# Altium schematic symbol library CANLED_SCHLIB.SchLib: 11 symbols
Pins are listed as number, name and electrical type; pins without a type are passive.

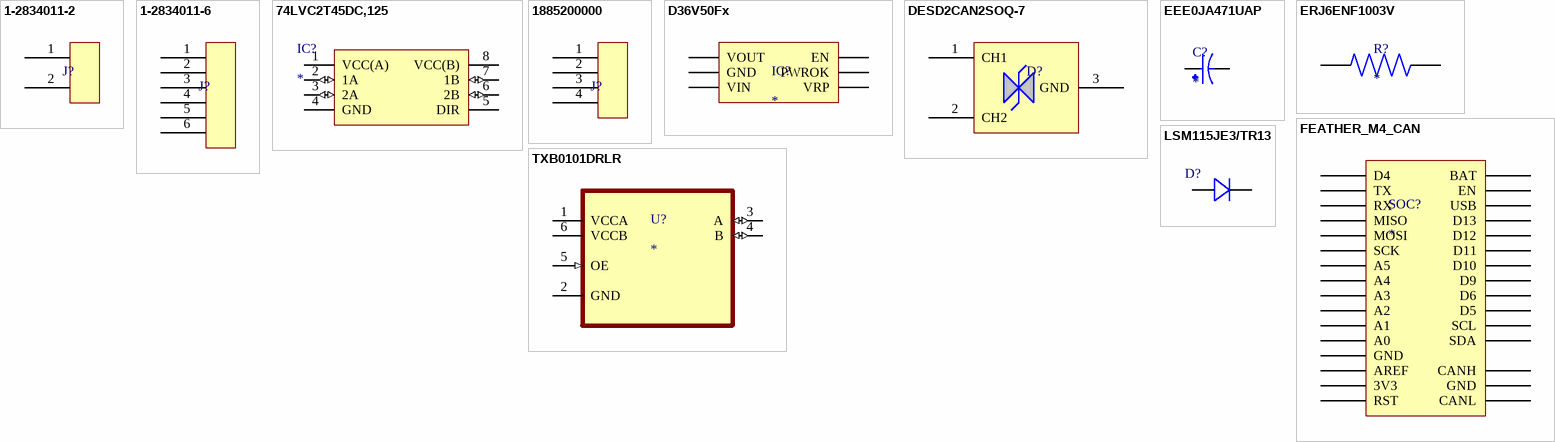
[diagram p0: symbols 1-2834011-2 to TXB0101DRLR]

## 1-2834011-2
designator J?  (value not drawn)
Conn PC Terminal Block RCP 2 POS 3.5mm Solder ST Thru-Hole 6A/Contact Box/Carton; Manufacturer: TE Connectivity; Manufacturer Part Number: 1-2834011-2; Current Rating: 6A; Voltage Rating: 300V; Connector Type: Receptacle,Connector; Number of Positions: 2; Sealable: No (Without); Wire/Cable Gauge: 14AWG; Approvals: UL; Supplier 1: Digi-Key; RoHS: Yes; Category: Terminal Blocks; Stock 1: 40747; Pricing 1: 1=0.68000, 10=0.42600, 25=0.36440, 50=0.32780, 100=0.32090, 250=0.27308, 500=0.25942, 1000=0.23212, 5000=0.18206 (USD); Number of Pins: 2; Contact Plating: Tin,Lead; Packaging: Box; Termination: Through Hole; Contact Current Rating: 6A; REACH SVHC: Unknown; Lead Free: Lead Free; RoHS Compliant: Yes; ComponentLink1URL: http://www.te.com/commerce/DocumentDelivery/DDEController?Action=srchrtrv&DocNm=1-1773872-7_ModularScrewlessTerminalBloc&DocType=DS&DocLang=English&src-supplier=Digi-Key; ComponentLink1Description: http://www.te.com/commerce/DocumentDelivery/DDEController?Action=srchrtrv&DocNm=1-1773872-7_ModularScrewlessTerminalBloc&DocType=DS&DocLang=English&src-supplier=Digi-Key; ComponentLink2URL: http://www.farnell.com/datasheets/2057753.pdf?src-supplier=Element14; ComponentLink2Description: http://www.farnell.com/datasheets/2057753.pdf?src-supplier=Element14; ComponentLink3URL: http://www.farnell.com/datasheets/2296738.pdf?src-supplier=Newark; ComponentLink3Description: http://www.farnell.com/datasheets/2296738.pdf?src-supplier=Newark; Supplier Part Number 1: A123848-ND
footprint 1-2834011-2
pins: 1, 2

## 1-2834011-6
designator J?  (value not drawn)
Conn PC Terminal Block 6 POS 3.5mm Solder ST Thru-Hole 6A/Contact Box/Carton; Manufacturer: TE Connectivity; Manufacturer Part Number: 1-2834011-6; Connector Type: Receptacle,Connector; Sealable: No (Without); Contact Current Rating: 6A; Wire/Cable Gauge: 14AWG; Approvals: UL; Supplier 1: Digi-Key; RoHS: No; Category: Terminal Blocks; Stock 1: 4797; Pricing 1: 1=1.42000, 10=1.00100, 25=0.93320, 50=0.84700, 100=0.84320, 250=0.71200, 500=0.67454, 1000=0.59959, 5000=0.49966 (USD); Number of Pins: 6; Contact Plating: Tin,Lead; Packaging: Box; Termination: Through Hole; Lead Free: Lead Free; ComponentLink1URL: http://www.te.com/commerce/DocumentDelivery/DDEController?Action=srchrtrv&DocNm=2834011&DocType=Customer+Drawing&DocLang=English&src-supplier=Digi-Key; ComponentLink1Description: http://www.te.com/commerce/DocumentDelivery/DDEController?Action=srchrtrv&DocNm=2834011&DocType=Customer+Drawing&DocLang=English&src-supplier=Digi-Key; Supplier Part Number 1: A123851-ND
footprint 1-2834011-6
pins: 1, 2, 3, 4, 5, 6

## 74LVC2T45DC,125
designator IC?
Voltage Level Translator Bidirectional 1 Circuit 2 Channel 420Mbps 8-VSSOP; MP: 74LVC2T45DC,125; MF: Nexperia USA; Value: *; Availability: Good; Package: VSSOP8-8 Nexperia USA Inc.; Check_prices: https://www.snapeda.com/parts/74LVC2T45DC,125/Nexperia/view-part/287401/?ref=eda; Price: None; SnapEDA_Link: https://www.snapeda.com/parts/74LVC2T45DC,125/Nexperia/view-part/287401/?ref=snap; Purchase-URL: https://pricing.snapeda.com/search/part/74LVC2T45DC,125/?ref=eda
footprint SOP50P310X100-8N
pins: 1 VCC(A) (power), 2 1A (io), 3 2A (io), 4 GND (power), 5 DIR, 6 2B (io), 7 1B (io), 8 VCC(B) (power)

## 1885200000
designator J?  (value not drawn)
footprint 1885200000
pins: 1, 2, 3, 4

## D36V50Fx
designator IC?
footprint D36V50Fx
pins: 1 VOUT, 2 GND, 3 VIN, 4 VRP, 5 PWROK, 6 EN

## DESD2CAN2SOQ-7
designator D?  (value not drawn)
ESD Suppressor Diode TVS Bi-Dir 24V Automotive 3-Pin SOT-23 T/R; Manufacturer: Diodes; Manufacturer Part Number: DESD2CAN2SOQ-7; Number of Bidirectional Channels: 2; Min Breakdown Voltage: 25.4V; Clamping Voltage: 41V; Peak Pulse Power: 230W; Power Line Protection: No; Peak Pulse Current: 5A; Supplier 1: Digi-Key; RoHS: Yes; Category: TVS Diodes; Stock 1: 91038; Pricing 1: 1=0.47000, 10=0.38300, 100=0.26050, 500=0.19536, 1000=0.14652 (USD); Mount: Surface Mount; Case/Package: TO-236-3; Min Operating Temperature: -65°C; Max Operating Temperature: 150°C; Packaging: Tape and Reel; Reverse Standoff Voltage: 24V; Resistor Type: Zener; ComponentLink1URL: http://www.farnell.com/datasheets/2814365.pdf?src-supplier=Farnell; ComponentLink1Description: http://www.farnell.com/datasheets/2814365.pdf?src-supplier=Farnell; ComponentLink2URL: http://www.mouser.com/ds/2/115/DESD2CAN2SOQ-520157.pdf?src-supplier=Mouser; ComponentLink2Description: http://www.mouser.com/ds/2/115/DESD2CAN2SOQ-520157.pdf?src-supplier=Mouser; ComponentLink3URL: https://www.diodes.com/assets/Datasheets/DESD2CAN2SOQ.pdf?src-supplier=Digi-Key; ComponentLink3Description: https://www.diodes.com/assets/Datasheets/DESD2CAN2SOQ.pdf?src-supplier=Digi-Key; ComponentLink4URL: http://www.farnell.com/datasheets/2814365.pdf?src-supplier=Element14; ComponentLink4Description: http://www.farnell.com/datasheets/2814365.pdf?src-supplier=Element14; ComponentLink5URL: http://www.farnell.com/datasheets/2814365.pdf?src-supplier=Newark; ComponentLink5Description: http://www.farnell.com/datasheets/2814365.pdf?src-supplier=Newark; Supplier Part Number 1: DESD2CAN2SOQ-7DICT-ND
footprint SOT23-3
pins: 1 CH1, 2 CH2, 3 GND

## EEE0JA471UAP
designator C?
470ÂµF 6.3V Aluminum Electrolytic Capacitors Radial, Can - SMD 1000 Hrs @ 85Â°C; MF: Panasonic; MP: EEE-0JA471UAP; Value: *; SnapEDA_Link: https://www.snapeda.com/parts/EEE-0JA471UAP/Panasonic/view-part/2352035/?ref=snap; Check_prices: https://www.snapeda.com/parts/EEE-0JA471UAP/Panasonic/view-part/2352035/?ref=eda; Purchase-URL: https://pricing.snapeda.com/search/part/EEE-0JA471UAP/?ref=eda; Price: None; Availability: In Stock; Package: RADIAL-2 Panasonic
footprint CAP_EEE0JA471UAP
pins: 1, 2

## ERJ6ENF1003V
designator R?
MP: ERJ6ENF1003V; Value: *; Availability: Unavailable; Price: None; Package: None
footprint RES_ERJ6ENF1003V
pins: 1, 2

## FEATHER_M4_CAN
designator SOC?
footprint FEATHER_M4_EXPRESS_CAN
pins: P1_1 D4, P1_2 TX, P1_3 RX, P1_4 MISO, P1_5 MOSI, P1_6 SCK, P1_7 A5, P1_8 A4, P1_9 A3, P1_10 A2, P1_11 A1, P1_12 A0, P1_13 GND, P1_14 AREF, P1_15 3V3, P1_16 RST, P2_1 BAT, P2_2 EN, P2_3 USB, P2_4 D13, P2_5 D12, P2_6 D11, P2_7 D10, P2_8 D9, P2_9 D6, P2_10 D5, P2_11 SCL, P2_12 SDA, P3_1 CANH, P3_2 GND, P3_3 CANL

## LSM115JE3/TR13
designator D?  (value not drawn)
No Description Available; Mfr_Name: Microchip; Type: DEV; Copyright: Copyright (C) 2022 Ultra Librarian. All rights reserved.; Manufacturer_Part_Number: LSM115JE3/TR13; Digi-Key_Part_Number_1: LSM115JE3/TR13TR-ND; Digi-Key_Part_Number_2: LSM115JE3/TR13CT-ND; Digi-Key_Part_Number_3: LSM115JE3/TR13DKR-ND; RefDes: RefDes
footprint DO-214BA_MCH
pins: 1, 2

## TXB0101DRLR
designator U?
1-Bit Bidirectional Voltage-Level Shifter With Auto Direction Sensing and +/-15-kV ESD Protect 6-SOT-5X3 -40 to 85; MF: Texas Instruments; MP: TXB0101DRLR; SnapEDA_Link: https://www.snapeda.com/parts/TXB0101DRLR/Texas+Instruments/view-part/?ref=snap; Digi-Key_Part_Number: 296-24665-1-ND; Check_prices: https://www.snapeda.com/parts/TXB0101DRLR/Texas+Instruments/view-part/?ref=eda; Value: *; Package: SOT-5X3-6 Texas Instruments; Purchase-URL: https://pricing.snapeda.com/search/part/TXB0101DRLR/?ref=eda
footprint SOT50P160X60-6N
pins: 1 VCCA (power), 2 GND, 3 A (io), 4 B (io), 5 OE (in), 6 VCCB (power)